# Altium schematic symbol library Schlib1.SchLib: 1 symbol
Pins are listed as number, name and electrical type; pins without a type are passive.

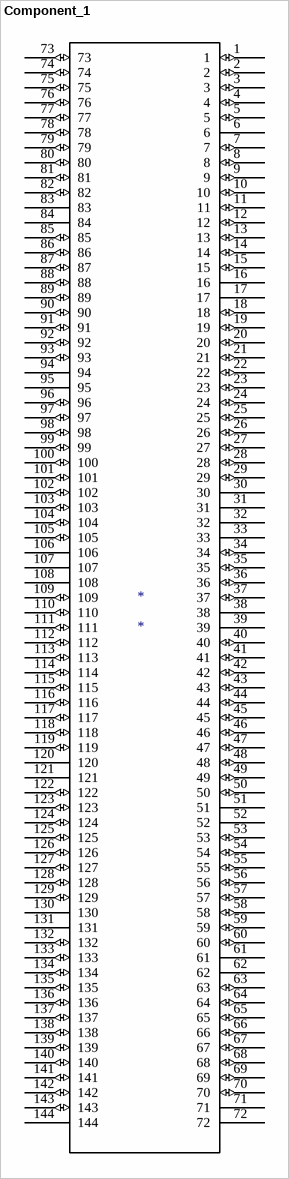
[diagram p0: symbol Component_1]

## Component_1
designator *
footprint *QFP50P2200X2200X160-144N
pins: 1 (io) "PE2", 2 (io), 3 (io), 4 (io), 5 (io), 6 (power) "VBAT", 7 (io), 8 (io), 9 (io), 10 (io), 11 (io), 12 (io), 13 (io), 14 (io), 15 (io), 16 (power), 17 (power), 18 (io), 19 (io), 20 (io), 21 (io), 22 (io), 23 (io), 24 (io), 25 (io), 26 (io), 27 (io), 28 (io), 29 (io), 30 (power), 31 (power), 32 (power), 33 (power), 34 (io), 35 (io), 36 (io), 37 (io), 38 (power), 39 (power), 40 (io), 41 (io), 42 (io), 43 (io), 44 (io), 45 (io), 46 (io), 47 (io), 48 (io), 49 (io), 50 (io), 51 (power), 52 (power), 53 (io), 54 (io), 55 (io), 56 (io), 57 (io), 58 (io), 59 (io), 60 (io), 61 (power), 62 (power), 63 (io), 64 (io), 65 (io), 66 (io), 67 (io), 68 (io), 69 (io), 70 (io), 71 (power), 72 (power), 73 (io), 74 (io), 75 (io), 76 (io), 77 (io), 78 (io), 79 (io), 80 (io), 81 (io), 82 (io), 83 (power), 84 (power), 85 (io), 86 (io), 87 (io), 88 (io), 89 (io), 90 (io), 91 (io), 92 (io), 93 (io), 94 (power), 95 (power), 96 (io), 97 (io), 98 (io), 99 (io), 100 (io), 101 (io), 102 (io), 103 (io), 104 (io), 105 (io), 106 (power), 107 (power), 108 (power), 109 (io), 110 (io), 111 (io), 112 (io), 113 (io), 114 (io), 115 (io), 116 (io), 117 (io), 118 (io), 119 (io), 120 (power), 121 (power), 122 (io), 123 (io), 124 (io), 125 (io), 126 (io), 127 (io), 128 (io), 129 (io), 130 (power), 131 (power), 132 (io), 133 (io), 134 (io), 135 (io), 136 (io), 137 (io), 138 (io), 139 (io), 140 (io), 141 (io), 142 (io), 143 (io), 144 (power)